# Altium schematic symbol library plugs.SchLib: 3 symbols
Pins are listed as number, name and electrical type; pins without a type are passive.

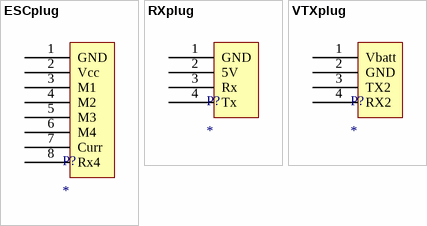
[diagram p0: symbols ESCplug to VTXplug]

## ESCplug
designator P?
footprint ESCplug
pins: 1 GND, 2 Vcc, 3 M1, 4 M2, 5 M3, 6 M4, 7 Curr, 8 Rx4

## RXplug
designator P?
footprint RXplug
pins: 1 GND, 2 5V, 3 Rx, 4 Tx

## VTXplug
designator P?
footprint VTXplug
pins: 1 Vbatt, 2 GND, 3 TX2, 4 RX2